# Altium schematic symbol library ZenerDiode_BZX84-A3V0.SchLib: 1 symbol
Pins are listed as number, name and electrical type; pins without a type are passive.

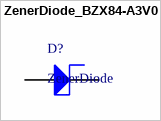
[diagram p0: symbol ZenerDiode_BZX84-A3V0]

## ZenerDiode_BZX84-A3V0
designator D?, comment ZenerDiode
pins: 1 A, 3 K